# Altium footprint library PCB - INDUCTOR - BOURNS SRP1265A SERIES.PCBLIB: 1 footprints
Each footprint in its own frame and in the unit in brackets; x right, y up, seen from the top. Pads: shape width x height; smd on the part's side, far side on the other; paste and mask are expansions set on the pad; w line width, h text height; cw(c..) or ccw(c..) is an arc to the next point about the centre after c.
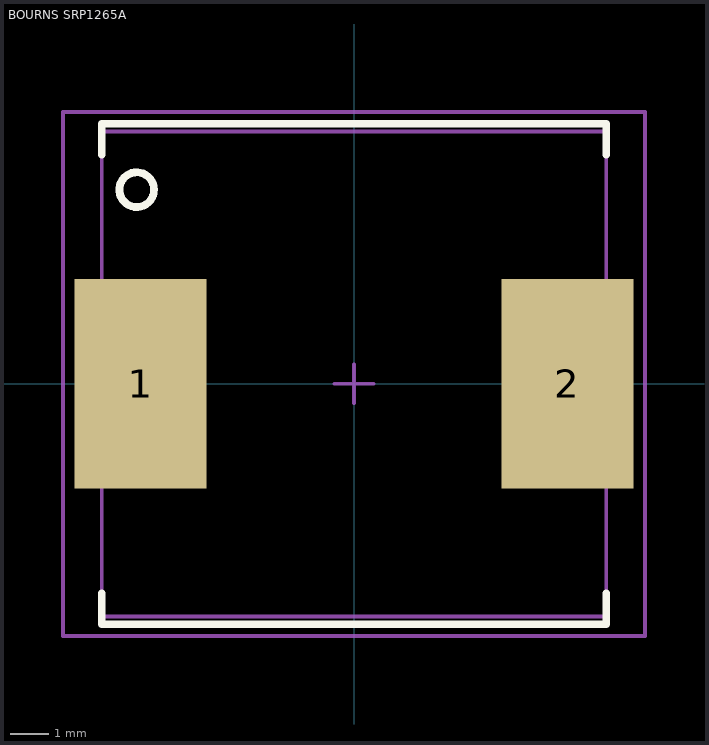
[diagram p0: the footprint, top view; thin cyan lines are the x and y axes]

## BOURNS SRP1265A [mm] "Precision Wire Wound Inductor, 2-Leads, Body 13.50x12.50mm, IPC Medium Density"
height 6.4
pads (2):
  rect 3.4x5.4 smd mask+0.15: 1(-5.5,0) 2(5.5,0)
Top Overlay:
  circle w0.2: c-5.6,5 r0.447
  lines w0.2: -6.5,-5.4 -6.5,-6.2 6.5,-6.2 6.5,-5.4 ; -6.5,5.9 -6.5,6.7 6.5,6.7 6.5,5.9
Mechanical 13:
  lines w0.1: -6.5,-6 -6.5,6.5 6.5,6.5 6.5,-6 -6.5,-6
Mechanical 15:
  lines w0.1: -0.5,0 0.5,0 ; 0,-0.5 0,0.5 ; -7.5,-6.5 -7.5,7 7.5,7 7.5,-6.5 -7.5,-6.5
3D body "Bourns - SRP1265A series.stp": height 6.36, standoff 0.05, extent -6.5,-6 6.4,6.5